# Altium footprint library DFN540P650X115-3N.PcbLib: 1 footprints
Each footprint in its own frame and in the unit in brackets; x right, y up, seen from the top. Pads: shape width x height; smd on the part's side, far side on the other; paste and mask are expansions set on the pad; w line width, h text height; cw(c..) or ccw(c..) is an arc to the next point about the centre after c.
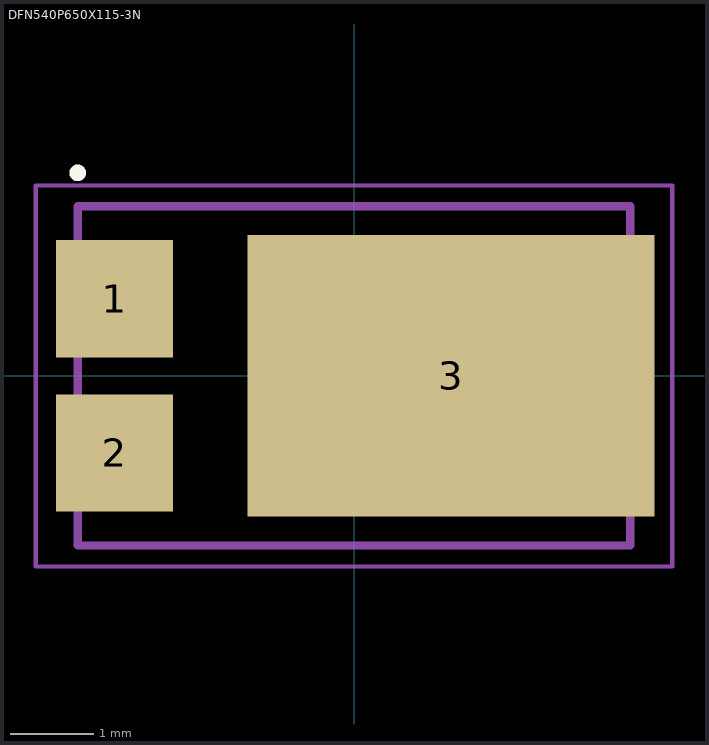
[diagram p0: the footprint, top view; thin cyan lines are the x and y axes]

## DFN540P650X115-3N [mm] "DFN, 3-Leads, Body 3,97x6,50mm, Pitch 5,40mm, IPC Medium Density"
height 1.15
pads (3):
  rect 1.4x1.4 smd: 1(-2.86,0.92) 2(-2.86,-0.92)
  rect 4.86x3.36 smd: 3(1.16,0)
Top Overlay:
  circle w0.1: c-3.3,2.425 r0.05
Mechanical 13:
  lines w0.1: -3.3,-2.025 -3.3,2.025 3.3,2.025 3.3,-2.025 -3.3,-2.025
Mechanical 15:
  lines w0.05: -3.8,-2.275 -3.8,2.275 3.8,2.275 3.8,-2.275 -3.8,-2.275
  lines w0.1: -0.5,0 0.5,0 ; 0,-0.5 0,0.5
3D body: height 1.15, standoff 0, extent -3.3,-2.025 3.3,2.025